# EAGLE library part SLA7070MRT (library S_Driver)
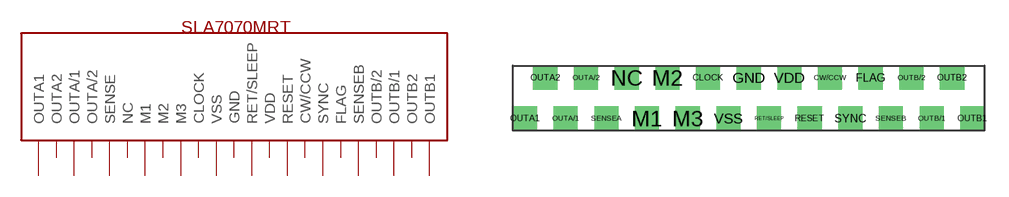
[diagram p0: symbol with the pads of SLA7070MRT; footprint SLA7070MRT]

Designator prefix -

## SLA7070MRT  [SLA7070MRT]
CLOCK  CLOCK
CW/CCW  CW/CCW
FLAG  FLAG
GND  GND
M1  M1
M2  M2
M3  M3
NC  NC
OUTA1  OUTA1
OUTA2  OUTA2
OUTA/1  OUTA/1
OUTA/2  OUTA/2
OUTB1  OUTB1
OUTB2  OUTB2
OUTB/1  OUTB/1
OUTB/2  OUTB/2
RESET  RESET
RET/SLEEP  RET/SLEEP
SENSEA  SENSE
SENSEB  SENSEB
SYNC  SYNC
VDD  VDD
VSS  VSS

## Footprint SLA7070MRT (pad centres in mm)
drill 1 square: CLOCK 10.16,0; CW/CCW 17.78,0; FLAG 20.32,0; GND 12.7,0; M1 6.35,-2.54; M2 7.62,0; M3 8.89,-2.54; NC 5.08,0; OUTA1 -1.27,-2.54; OUTA2 0,0; OUTA/1 1.27,-2.54; OUTA/2 2.54,0; OUTB1 26.67,-2.54; OUTB2 25.4,0; OUTB/1 24.13,-2.54; OUTB/2 22.86,0; RESET 16.51,-2.54; RET/SLEEP 13.97,-2.54; SENSEA 3.81,-2.54; SENSEB 21.59,-2.54; SYNC 19.05,-2.54; VDD 15.24,0; VSS 11.43,-2.54